# Altium footprint library Turck-8-PCBH.PcbLib: 1 footprints
Each footprint in its own frame and in the unit in brackets; x right, y up, seen from the top. Pads: shape width x height; smd on the part's side, far side on the other; paste and mask are expansions set on the pad; w line width, h text height; cw(c..) or ccw(c..) is an arc to the next point about the centre after c.
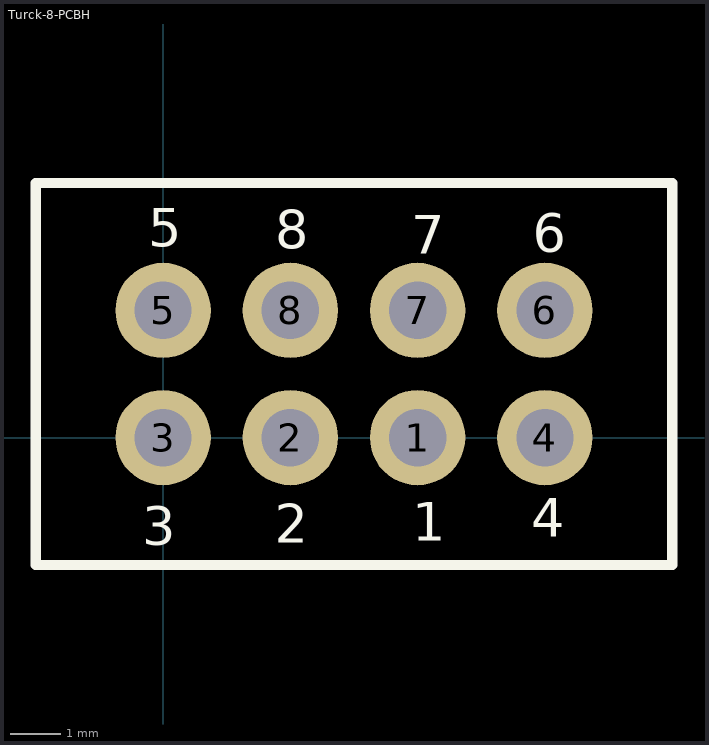
[diagram p0: the footprint, top view; thin cyan lines are the x and y axes]

## Turck-8-PCBH [mil] "90degree Turck Connector"
height 10
pads (8):
  round 75 hole 45: 1(200,0) 2(100,0) 3(0,0) 4(300,0) 5(0,100) 6(300,100) 7(200,100) 8(100,100)
TopOverlay:
  lines w8: -100,-100 400,-100 400,200 -100,200 -100,-100
  text "8" at 88.11,148.58 h30
  text "7" at 194.99,144.36 h30
  text "6" at 290.62,145.77 h30
  text "5" at -11.74,149.99 h30
  text "4" at 289.21,-77.83 h30
  text "3" at -16.27,-84.38 h30
  text "2" at 87.64,-82.63 h30
  text "1" at 195.92,-80.89 h30